# Altium integrated library Comms Board Small Footprints.IntLib: 10 symbols
Pins are listed as number, name and electrical type; pins without a type are passive.

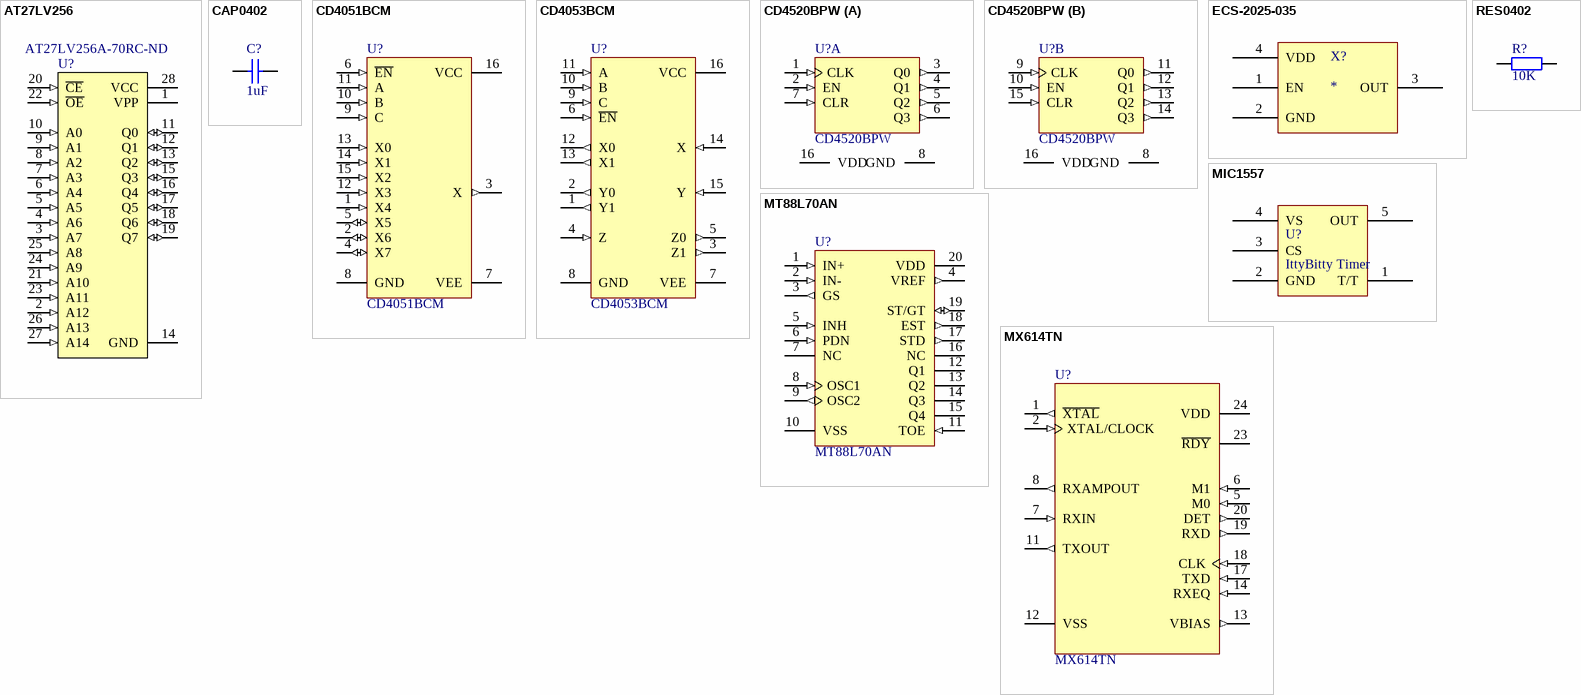
[diagram p0: symbols AT27LV256 to RES0402]

## AT27LV256
designator U?  Supplier Part Number 1: AT27LV256A-70RC-ND
256 Kbit (32Kb X 8) UV EPROM and OTP EPROM; Published: 24-Aug-2001; LatestRevisionDate: 06-Jun-2005; LatestRevisionNote: Stylized 3D Model Added.; DatasheetVersion: Jul-1998; PackageVersion: Jan-2003; PackageReference: PDIP28; Publisher: Altium Limited; PackageDescription: DIP; 28 Leads; Row Spacing 15.24 mm; Pitch 2.54 mm; ComponentLink1Description: Manufacturer Link; ComponentLink1URL: http://www.st.com/; ComponentLink2Description: Datasheet; ComponentLink2URL: http://www.st.com/stonline/products/literature/ds/2384/m27c256b.pdf; Supplier 1: Digi-Key
footprint PLCC32 (PLCC, 32-Leads, Body 15.1x15.1mm (max), Pitch 1.270mm, IPC Medium Density)
pins: 1 VPP (power), 2 A12 (in), 3 A7 (in), 4 A6 (in), 5 A5 (in), 6 A4 (in), 7 A3 (in), 8 A2 (in), 9 A1 (in), 10 A0 (in), 11 Q0 (io), 12 Q1 (io), 13 Q2 (io), 14 GND (power), 15 Q3 (io), 16 Q4 (io), 17 Q5 (io), 18 Q6 (io), 19 Q7 (io), 20 ~{CE} (in), 21 A10 (in), 22 ~{OE} (in), 23 A11 (in), 24 A9 (in), 25 A8 (in), 26 A13 (in), 27 A14 (in), 28 VCC (power)

## CAP0402
designator C?, comment value 1uF  (hidden comment: Capacitor, ceramic)
Capacitor; Supplier 1: Farnell; Supplier Product Range Link: http://au.element14.com/jsp/level5/module.jsp?moduleId=en/208437.xml
footprint CAP0402 (Chip Capacitor, 2-Leads, Body 1.0x0.5mm, IPC Low Density)
pins: 1, 2

## CD4051BCM
designator U?
8-Channel Analog Multiplexer/Demultiplexer; Datasheet Link: http://focus.ti.com/lit/ds/symlink/cd4052b.pdf; Supplier 1: Farnell; Supplier Part Number 1: 1753421
footprint TSSOP16 (Thin Small Outline Package)
pins: 1 X4 (in), 2 X6 (io), 3 X (out), 4 X7 (io), 5 X5 (io), 6 ~{EN} (in), 7 VEE (power), 8 GND (power), 9 C (in), 10 B (in), 11 A (in), 12 X3 (in), 13 X0 (in), 14 X1 (in), 15 X2 (in), 16 VCC (power)

## CD4053BCM
designator U?
Triple 2-Channnel Analog Multiplexer/Demutiplexer; Supplier 1: Farnell; Supplier Part Number 1: 2132284
footprint TSSOP16 (Thin Small Outline Package)
pins: 1 Y1 (out), 2 Y0 (out), 3 Z1 (out), 4 Z (in), 5 Z0 (out), 6 ~{EN} (in), 7 VEE (power), 8 GND (power), 9 C (in), 10 B (in), 11 A (in), 12 X0 (out), 13 X1 (out), 14 X (in), 15 Y (in), 16 VCC (power)

## CD4520BPW
designator U?
Dual Binary Up-Counter; Supplier 1: Farnell; Supplier Part Number 1: 1752815
footprint TSSOP16 (Thin Small Outline Package)
pins on every part: 8 GND (power), 16 VDD (power)
part A pins: 1 CLK (in), 2 EN (in), 3 Q0 (out), 4 Q1 (out), 5 Q2 (out), 6 Q3 (out), 7 CLR (in)
part B pins: 9 CLK (in), 10 EN (in), 11 Q0 (out), 12 Q1 (out), 13 Q2 (out), 14 Q3 (out), 15 CLR (in)

## ECS-2025-035
designator X?
SMD Clock Oscillator, 3.579545MHz
footprint ECS-2025 (SMD Clock Oscillator)
pins: 1 EN, 2 GND, 3 OUT, 4 VDD

## MIC1557
designator U?, comment IttyBitty Timer
Miniature Astable Timer Chip; Supplier: Farnell; Supplier Part Number: 1517241
footprint SOT23-5 (SOT23, 5-Leads, Body 3.0x3.0mm (max), Pitch 0.95mm, IPC Medium Density)
pins: 1 T/T, 2 GND, 3 CS, 4 VS, 5 OUT

## MT88L70AN
designator U?
3 Volt Integrated DTMF Receiver; Published: 8-Jun-2000; LatestRevisionDate: 13-Apr-2006; LatestRevisionNote: IPC-7351 Footprint Added.; DatasheetVersion: Issue 4 March 1997; PackageVersion: 1997; PackageReference: SOIC18; Publisher: Altium Limited; PackageDescription: 18-Pin Small Outline Integrated Circuit 1.27 mm Pitch; Code_JEDEC: MS-013-AB; ComponentLink1Description: Manufacturer Link; ComponentLink1URL: http://products.zarlink.com; ComponentLink2Description: Datasheet; ComponentLink2URL: http://assets.zarlink.com/DS/zarlink_MT88L70_MAY_05.pdf; Supplier 1: Allied; Supplier Part Number 1: 090-SPEC
footprint TSSOP20 (Thin Small Outline Package)
pins: 1 IN+ (in), 2 IN- (in), 3 GS (out), 4 VREF (out), 5 INH (in), 6 PDN (in), 7 NC, 8 OSC1 (in), 9 OSC2 (out), 10 VSS (power), 11 TOE (in), 12 Q1 (hiz), 13 Q2 (hiz), 14 Q3 (hiz), 15 Q4 (hiz), 16 NC, 17 STD (out), 18 EST (out), 19 ST/GT (io), 20 VDD (power)

## MX614TN
designator U?
Bell 202 Compatible Modem
footprint TSSOP24 (Thin Small Outline Package)
pins: 1 ~{XTAL} (out), 2 XTAL/CLOCK (in), 5 M0 (in), 6 M1 (in), 7 RXIN (in), 8 RXAMPOUT (out), 11 TXOUT (out), 12 VSS (power), 13 VBIAS (out), 14 RXEQ (in), 17 TXD (in), 18 CLK (in), 19 RXD (out), 20 DET (out), 23 ~{RDY}, 24 VDD (power)

## RES0402
designator R?, comment value 10K  (hidden comment: Res1)
Resistor; Supplier: Farnell; Supplier Product Range Link: http://au.element14.com/jsp/level5/module.jsp?moduleId=en/207266.xml; Supplier Order Number: *
signal-integrity model Res
footprint RES0402 (Chip Resistor, 2-Leads, Body 1.0x0.5mm, IPC Low Density)
pins: 1, 2